# Altium footprint library MOLEX_MX150.PcbLib: 1 footprints
Each footprint in its own frame and in the unit in brackets; x right, y up, seen from the top. Pads: shape width x height; smd on the part's side, far side on the other; paste and mask are expansions set on the pad; w line width, h text height; cw(c..) or ccw(c..) is an arc to the next point about the centre after c.
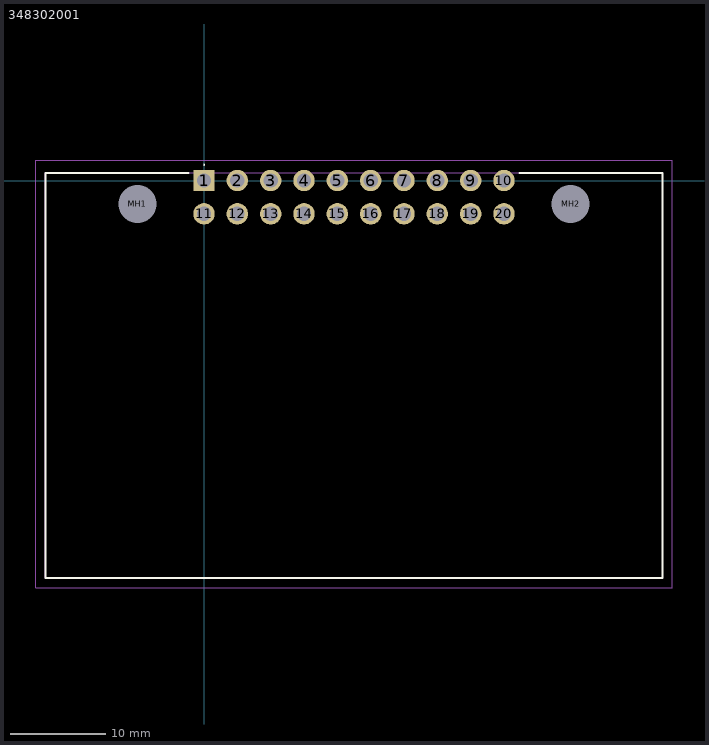
[diagram p0: the footprint, top view; thin cyan lines are the x and y axes]

## 348302001 [mm]
pads (22):
  rect 2.25x2.25 hole 1.5: 1(0,0)
  round 2.25 hole 1.5: 2(3.5,0) 3(7,0) 4(10.5,0) 5(14,0) 6(17.5,0) 7(21,0) 8(24.5,0) 9(28,0) 10(31.5,0) 11(0,-3.5) 12(3.5,-3.5) 13(7,-3.5) 14(10.5,-3.5) 15(14,-3.5) 16(17.5,-3.5) 17(21,-3.5) 18(24.5,-3.5) 19(28,-3.5) 20(31.5,-3.5)
  round 2 hole 4 unplated: MH1(-7,-2.46) MH2(38.5,-2.46)
Top Overlay:
  lines w0.1: 0,1.6 cw(c0,1.65) 0,1.7 cw(c0,1.65) 0,1.6
  lines w0.2: -1.65,0.8 -16.65,0.8 -16.665,-41.76 48.165,-41.76 48.165,0.8 33.15,0.8
Mechanical 13:
  lines w0.1: -16.665,-41.76 -16.665,0.8 48.165,0.8 48.165,-41.76 -16.665,-41.76
Mechanical 15:
  lines w0.1: -17.665,-42.76 -17.665,2.125 49.165,2.125 49.165,-42.76 -17.665,-42.76
3D body "34830-2001.stp": height 21.87, standoff -4.62, extent -16.098,-41.885 47.593,0.675